# Altium footprint library MotherBoard.PcbLib: 2 footprints
Each footprint in its own frame and in the unit in brackets; x right, y up, seen from the top. Pads: shape width x height; smd on the part's side, far side on the other; paste and mask are expansions set on the pad; w line width, h text height; cw(c..) or ccw(c..) is an arc to the next point about the centre after c.
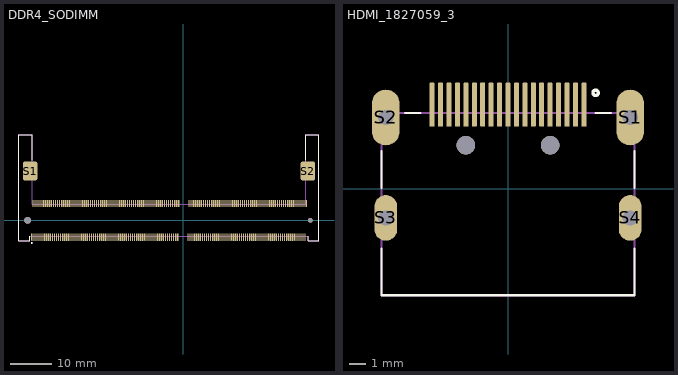
[diagram p0: the footprints below, top view; thin cyan lines are the x and y axes]

## DDR4_SODIMM [mm]
pads (264):
  rrect25% 0.3x1.75 smd: 1(-36.875,-4.1) 2(-36.625,4.1) 3(-36.375,-4.1) 4(-36.125,4.1) 5(-35.875,-4.1) 6(-35.625,4.1) 7(-35.375,-4.1) 8(-35.125,4.1) 9(-34.875,-4.1) 10(-34.625,4.1) 11(-34.375,-4.1) 12(-34.125,4.1) 13(-33.875,-4.1) 14(-33.625,4.1) 15(-33.375,-4.1) 16(-33.125,4.1) 17(-32.875,-4.1) 18(-32.625,4.1) 19(-32.375,-4.1) 20(-32.125,4.1) 21(-31.875,-4.1) 22(-31.625,4.1) 23(-31.375,-4.1) 24(-31.125,4.1) 25(-30.875,-4.1) 26(-30.625,4.1) 27(-30.375,-4.1) 28(-30.125,4.1) 29(-29.875,-4.1) 30(-29.625,4.1) 31(-29.375,-4.1) 32(-29.125,4.1) 33(-28.875,-4.1) 34(-28.625,4.1) 35(-28.375,-4.1) 36(-28.125,4.1) 37(-27.875,-4.1) 38(-27.625,4.1) 39(-27.375,-4.1) 40(-27.125,4.1) 41(-26.875,-4.1) 42(-26.625,4.1) 43(-26.375,-4.1) 44(-26.125,4.1) 45(-25.875,-4.1) 46(-25.625,4.1) 47(-25.375,-4.1) 48(-25.125,4.1) 49(-24.875,-4.1) 50(-24.625,4.1) 51(-24.375,-4.1) 52(-24.125,4.1) 53(-23.875,-4.1) 54(-23.625,4.1) 55(-23.375,-4.1) 56(-23.125,4.1) 57(-22.875,-4.1) 58(-22.625,4.1) 59(-22.375,-4.1) 60(-22.125,4.1) 61(-21.875,-4.1) 62(-21.625,4.1) 63(-21.375,-4.1) 64(-21.125,4.1) 65(-20.875,-4.1) 66(-20.625,4.1) 67(-20.375,-4.1) 68(-20.125,4.1) 69(-19.875,-4.1) 70(-19.625,4.1) 71(-19.375,-4.1) 72(-19.125,4.1) 73(-18.875,-4.1) 74(-18.625,4.1) 75(-18.375,-4.1) 76(-18.125,4.1) 77(-17.875,-4.1) 78(-17.625,4.1) 79(-17.375,-4.1) 80(-17.125,4.1) 81(-16.875,-4.1) 82(-16.625,4.1) 83(-16.375,-4.1) 84(-16.125,4.1) 85(-15.875,-4.1) 86(-15.625,4.1) 87(-15.375,-4.1) 88(-15.125,4.1) 89(-14.875,-4.1) 90(-14.625,4.1) 91(-14.375,-4.1) 92(-14.125,4.1) 93(-13.875,-4.1) 94(-13.625,4.1) 95(-13.375,-4.1) 96(-13.125,4.1) 97(-12.875,-4.1) 98(-12.625,4.1) 99(-12.375,-4.1) 100(-12.125,4.1) 101(-11.875,-4.1) 102(-11.625,4.1) 103(-11.375,-4.1) 104(-11.125,4.1) 105(-10.875,-4.1) 106(-10.625,4.1) 107(-10.375,-4.1) 108(-10.125,4.1) 109(-9.875,-4.1) 110(-9.625,4.1) 111(-9.375,-4.1) 112(-9.125,4.1) 113(-8.875,-4.1) 114(-8.625,4.1) 115(-8.375,-4.1) 116(-8.125,4.1) 117(-7.875,-4.1) 118(-7.625,4.1) 119(-7.375,-4.1) 120(-7.125,4.1) 121(-6.875,-4.1) 122(-6.625,4.1) 123(-6.375,-4.1) 124(-6.125,4.1) 125(-5.875,-4.1) 126(-5.625,4.1) 127(-5.375,-4.1) 128(-5.125,4.1) 129(-4.875,-4.1) 130(-4.625,4.1) 131(-4.375,-4.1) 132(-4.125,4.1) 133(-3.875,-4.1) 134(-3.625,4.1) 135(-3.375,-4.1) 136(-3.125,4.1) 137(-2.875,-4.1) 138(-2.625,4.1) 139(-2.375,-4.1) 140(-2.125,4.1) 141(-1.875,-4.1) 142(-1.625,4.1) 143(-1.375,-4.1) 144(-1.125,4.1) 145(1.125,-4.1) 146(1.375,4.1) 147(1.625,-4.1) 148(1.875,4.1) 149(2.125,-4.1) 150(2.375,4.1) 151(2.625,-4.1) 152(2.875,4.1) 153(3.125,-4.1) 154(3.375,4.1) 155(3.625,-4.1) 156(3.875,4.1) 157(4.125,-4.1) 158(4.375,4.1) 159(4.625,-4.1) 160(4.875,4.1) 161(5.125,-4.1) 162(5.375,4.1) 163(5.625,-4.1) 164(5.875,4.1) 165(6.125,-4.1) 166(6.375,4.1) 167(6.625,-4.1) 168(6.875,4.1) 169(7.125,-4.1) 170(7.375,4.1) 171(7.625,-4.1) 172(7.875,4.1) 173(8.125,-4.1) 174(8.375,4.1) 175(8.625,-4.1) 176(8.875,4.1) 177(9.125,-4.1) 178(9.375,4.1) 179(9.625,-4.1) 180(9.875,4.1) 181(10.125,-4.1) 182(10.375,4.1) 183(10.625,-4.1) 184(10.875,4.1) 185(11.125,-4.1) 186(11.375,4.1) 187(11.625,-4.1) 188(11.875,4.1) 189(12.125,-4.1) 190(12.375,4.1) 191(12.625,-4.1) 192(12.875,4.1) 193(13.125,-4.1) 194(13.375,4.1) 195(13.625,-4.1) 196(13.875,4.1) 197(14.125,-4.1) 198(14.375,4.1) 199(14.625,-4.1) 200(14.875,4.1) 201(15.125,-4.1) 202(15.375,4.1) 203(15.625,-4.1) 204(15.875,4.1) 205(16.125,-4.1) 206(16.375,4.1) 207(16.625,-4.1) 208(16.875,4.1) 209(17.125,-4.1) 210(17.375,4.1) 211(17.625,-4.1) 212(17.875,4.1) 213(18.125,-4.1) 214(18.375,4.1) 215(18.625,-4.1) 216(18.875,4.1) 217(19.125,-4.1) 218(19.375,4.1) 219(19.625,-4.1) 220(19.875,4.1) 221(20.125,-4.1) 222(20.375,4.1) 223(20.625,-4.1) 224(20.875,4.1) 225(21.125,-4.1) 226(21.375,4.1) 227(21.625,-4.1) 228(21.875,4.1) 229(22.125,-4.1) 230(22.375,4.1) 231(22.625,-4.1) 232(22.875,4.1) 233(23.125,-4.1) 234(23.375,4.1) 235(23.625,-4.1) 236(23.875,4.1) 237(24.125,-4.1) 238(24.375,4.1) 239(24.625,-4.1) 240(24.875,4.1) 241(25.125,-4.1) 242(25.375,4.1) 243(25.625,-4.1) 244(25.875,4.1) 245(26.125,-4.1) 246(26.375,4.1) 247(26.625,-4.1) 248(26.875,4.1) 249(27.125,-4.1) 250(27.375,4.1) 251(27.625,-4.1) 252(27.875,4.1) 253(28.125,-4.1) 254(28.375,4.1) 255(28.625,-4.1) 256(28.875,4.1) 257(29.125,-4.1) 258(29.375,4.1) 259(29.625,-4.1) 260(29.875,4.1)
  rrect25% 3.5x4.6 smd: S1(-37.3,12) S2(30.3,12)
  round 1.65 hole 1.65 unplated: ""(-37.9,0)
  round 1.15 hole 1.15 unplated: ""(30.9,0)
Top Overlay:
  circle w0.2: c-36.875,-5.5 r0.1
  lines w0.127: -37.4,-3.9 -37.4,-5 -40,-5 -40,20.85 -36.73,20.85 -36.73,14.62 ; 29.73,14.62 29.73,20.85 33,20.85 33,-5 30.4,-5 30.4,-3.9
Mechanical 13:
  circle w0.2: c-36.875,-5.5 r0.1
  lines w0.127: -40,-5 -40,20.85 -36.73,20.85 -36.73,3.9 29.73,3.9 29.73,20.85 33,20.85 33,-5 30.4,-5 30.4,-3.9 -37.4,-3.9 -37.4,-5 -40,-5
3D body "2309409-1.stp": height 4.81, standoff -0.73, extent -39.929,-4.895 33.071,20.955
3D body "Board.step": height 4.3, standoff 0.9, extent -38.229,-0.536 31.371,29.464

## HDMI_1827059_3 [mm] "EMBOSS PACKAGE HDMI CONN SMT NO-FLANGE T"
pads (25):
  rrect25% 0.3x2.6 smd: 1(4.5,5) 2(4,5) 3(3.5,5) 4(3,5) 5(2.5,5) 6(2,5) 7(1.5,5) 8(1,5) 9(0.5,5) 10(0,5) 11(-0.5,5) 12(-1,5) 13(-1.5,5) 14(-2,5) 15(-2.5,5) 16(-3,5) 17(-3.5,5) 18(-4,5) 19(-4.5,5)
  oval 1.65x3.3 hole 0.9: S1(7.25,4.24) S2(-7.25,4.24)
  oval 1.35x2.7 hole 0.9: S3(-7.25,-1.72) S4(7.25,-1.72)
  round 1.1 hole 1.1 unplated: ""(-2.5,2.59) ""(2.5,2.59)
Top Overlay:
  circle w0.2: c5.2,5.7 r0.158
  lines w0.127: -7.5,-3.55 -7.5,-6.31 7.5,-6.31 7.5,-3.55 ; -7.5,0.05 -7.5,2.25 ; -6.1,4.5 -5.2,4.5 ; 5.2,4.5 6.1,4.5 ; 7.5,0.05 7.5,2.25
Mechanical 1:
  lines w0: -7.7,-2.32 ccw(c-7.25,-2.32) -7.25,-2.77 ccw(c-7.25,-2.32) -6.8,-2.32 -6.8,-1.72 -6.8,-1.12 ccw(c-7.25,-1.12) -7.25,-0.67 ccw(c-7.25,-1.12) -7.7,-1.12 -7.7,-1.72 -7.7,-2.32 ; -7.7,3.34 ccw(c-7.25,3.34) -7.25,2.89 ccw(c-7.25,3.34) -6.8,3.34 -6.8,4.24 -6.8,5.14 ccw(c-7.25,5.14) -7.25,5.59 ccw(c-7.25,5.14) -7.7,5.14 -7.7,4.24 -7.7,3.34 ; 6.8,-2.32 ccw(c7.25,-2.32) 7.25,-2.77 ccw(c7.25,-2.32) 7.7,-2.32 7.7,-1.72 7.7,-1.12 ccw(c7.25,-1.12) 7.25,-0.67 ccw(c7.25,-1.12) 6.8,-1.12 6.8,-1.72 6.8,-2.32 ; 6.8,3.34 ccw(c7.25,3.34) 7.25,2.89 ccw(c7.25,3.34) 7.7,3.34 7.7,4.24 7.7,5.14 ccw(c7.25,5.14) 7.25,5.59 ccw(c7.25,5.14) 6.8,5.14 6.8,4.24 6.8,3.34
Mechanical 13:
  lines w0.127: -7.5,-6.31 7.5,-6.31 7.5,4.5 -7.5,4.5 -7.5,-6.31
3D body "1827059-3.stp": height 6.08, standoff -2.2, extent -7.5,-6.35 7.5,5.75